# Altium footprint library ST-08  V1.3.PcbLib: 11 footprints
Each footprint in its own frame and in the unit in brackets; x right, y up, seen from the top. Pads: shape width x height; smd on the part's side, far side on the other; paste and mask are expansions set on the pad; w line width, h text height; cw(c..) or ccw(c..) is an arc to the next point about the centre after c.
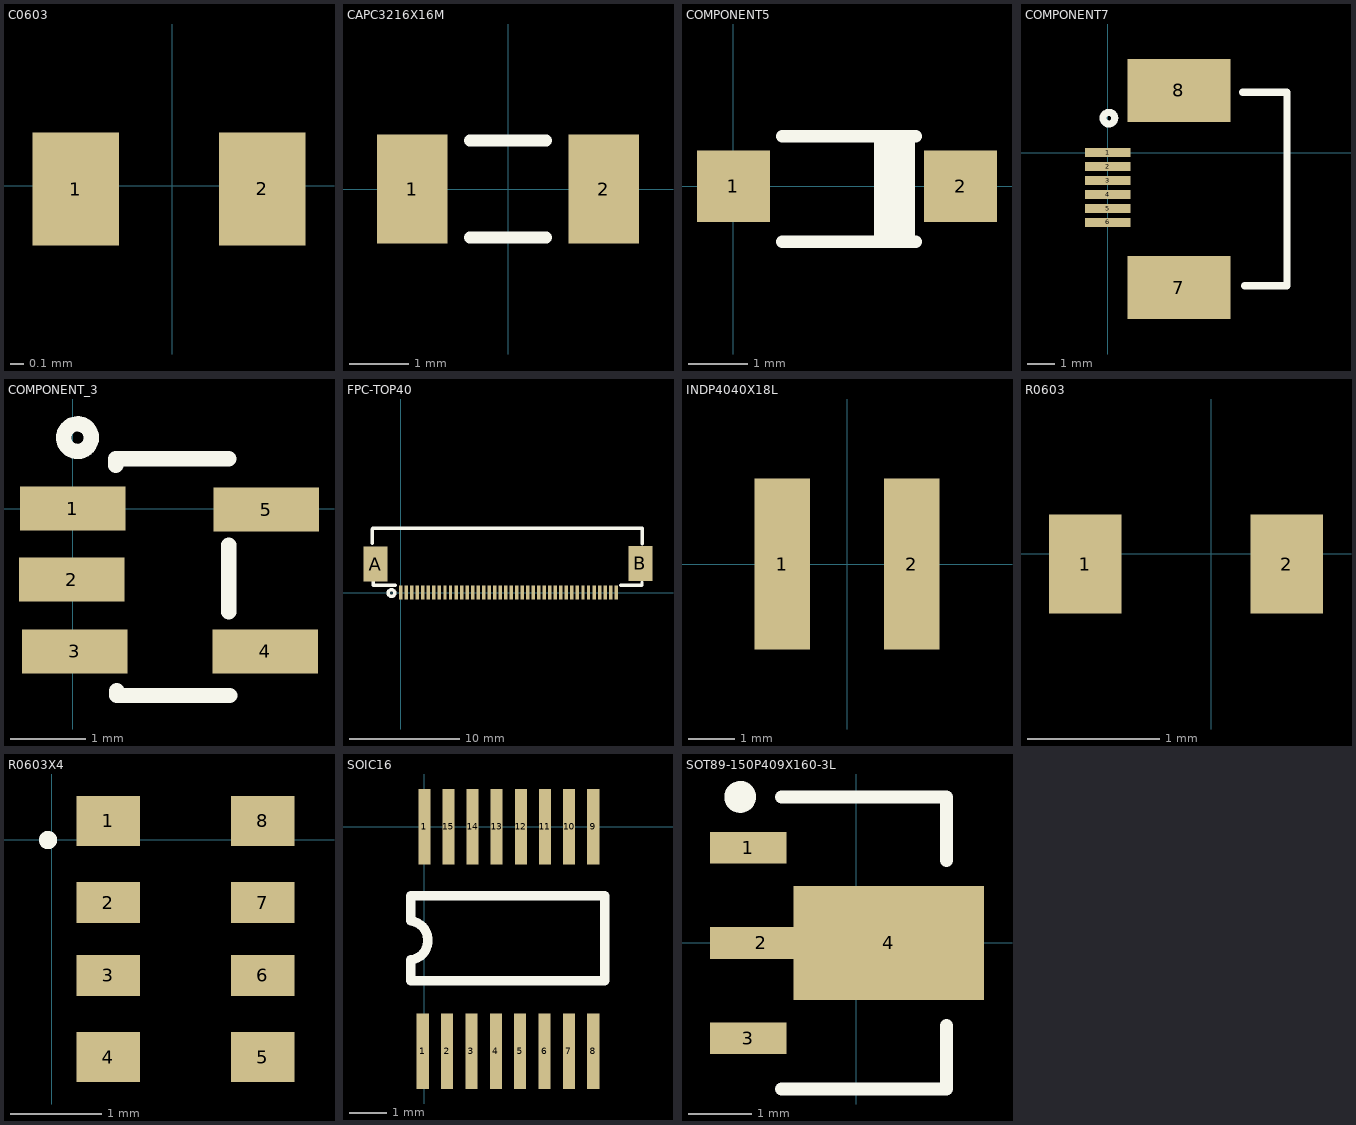
[diagram p0: the footprints below, top view; thin cyan lines are the x and y axes]

## C0603 [mm]
height 5
pads (2):
  rect 0.65x0.85 smd: 1(-0.725,-0.025) 2(0.675,-0.025)
3D body: height 0.45, standoff 0, extent -0.826,-0.425 0.774,0.375

## CAPC3216X16M [mm] "Chip Capacitor, 2-Leads, Body 3.20x1.60mm, IPC Low Density"
height 1.6
pads (2):
  rect 1.2x1.85 smd: 1(-1.625,0) 2(1.625,0)
Top Overlay:
  lines w0.2: -0.65,-0.825 0.65,-0.825 ; -0.65,0.825 0.65,0.825
3D body: height 1.6, standoff 0, extent -1.6,-0.8 1.6,0.8

## COMPONENT5 [mm]
pads (2):
  rect 1.221x1.195 smd: 1(0,0) 2(3.8,0)
Top Overlay:
  lines w0.203: 0.815,-0.927 3.051,-0.927 ; 0.815,0.838 3.051,0.838 ; 2.642,-0.927 2.642,0.838 ; 2.451,-0.927 2.502,-0.927 2.502,0.838 2.451,0.838 2.451,-0.927 ; 2.756,-0.927 2.934,-0.927 2.934,0.838 2.756,0.838 2.756,-0.927

## COMPONENT7 [mm]
pads (8):
  rect 1.622x0.312 smd: 1(0,0) 2(0,-0.5) 3(0,-1) 4(0,-1.5) 5(0,-2) 6(0,-2.5)
  rect 3.68x2.242 smd: 7(2.54,-4.827) 8(2.54,2.222)
Top Overlay:
  circle w0.254: c0.038,1.232 r0.208
  lines w0.254: 4.813,2.159 6.401,2.159 6.401,-4.763 4.889,-4.763

## COMPONENT_3 [mil]
pads (5):
  rect 55.05x23.05 smd: 1(0,0) 2(-0.5,-37) 3(1,-74.5) 4(100.5,-74.5) 5(101,-0.5)
Top Overlay:
  circle w8: c2.5,37 r7.21
  lines w8: 22.5,22.5 22.5,26 81.5,26 ; 23,-95 23,-97.5 82,-97.5 ; 81.5,-54 81.5,-19

## FPC-TOP40 [mm]
pads (42):
  rect 0.312x1.292 smd: 1(0,0) 2(0.5,0) 3(1,0) 4(1.5,0) 5(2,0) 6(2.5,0) 7(3,0) 8(3.5,0) 9(4,0) 10(4.5,0) 11(5,0) 12(5.5,0) 13(6,0) 14(6.5,0) 15(7,0) 16(7.506,0) 17(8,0) 18(8.5,0) 19(9,0) 20(9.5,0) 21(10,0) 22(10.5,0) 23(11,0) 24(11.5,0) 25(12,0) 26(12.5,0) 27(13,0) 28(13.5,0) 29(14,0) 30(14.5,0) 31(15,0) 32(15.5,0) 33(16,0) 34(16.5,0) 35(17,0) 36(17.5,0) 37(18,0) 38(18.5,0) 39(19,0) 40(19.5,0)
  rect 2.15x3.18 smd: A(-2.29,2.578) B(21.704,2.654)
Top Overlay:
  circle w0.305: c-0.851,-0.038 r0.302
  lines w0.305: -2.578,4.47 -2.578,5.74 ; -2.553,5.829 21.869,5.829 21.869,4.407 ; -2.515,0.978 -2.515,0.673 -0.508,0.673 ; 19.901,0.66 21.844,0.66 21.844,0.953

## INDP4040X18L [mm] "Precision Wire Wound Inductor, 2-Leads, Body 4.00x4.00mm, IPC High Density"
height 1.8
pads (2):
  rect 1.2x3.7 smd: 1(-1.4,0) 2(1.4,0)
3D body: height 2, standoff -0.01, extent -2,-2.001 2,2.089

## R0603 [mm]
height 5
pads (2):
  rect 0.55x0.75 smd: 1(-0.954,-0.076) 2(0.573,-0.076)
3D body: height 0.5, standoff 0, extent -0.978,-0.476 0.622,0.324

## R0603X4 [mm]
height 5
pads (8):
  rect 0.7x0.55 smd: 1(0.623,0.208) 4(0.623,-2.392) 5(2.323,-2.392) 8(2.323,0.208)
  rect 0.7x0.45 smd: 2(0.623,-0.692) 3(0.623,-1.492) 6(2.323,-1.492) 7(2.323,-0.692)
Top Overlay:
  circle w0.1: c-0.039,-0.004 r0.05
3D body: height 0.53, standoff -0.03, extent 0.673,-2.692 2.273,0.508

## SOIC16 [mil]
pads (16):
  rect 12.65x79.2 smd: 1(-1.63,-236) 1(0,0) 2(23.96,-236) 3(49.55,-236) 4(75.14,-236) 5(100.73,-236) 6(126.32,-236) 7(151.91,-236) 8(177.5,-236) 9(177.5,-0.17) 10(152.14,-0.15) 11(126.79,-0.12) 12(101.43,-0.1) 13(76.07,-0.07) 14(50.71,-0.05) 15(25.36,-0.03)
Top Overlay:
  lines w10: -14,-162 189.5,-162 189.5,-72.5 -14,-72.5 -14,-99 cw(c-16.87,-119.5) -14,-140 -14,-162

## SOT89-150P409X160-3L [mm] "SOT89, 3-Leads, Body 4.50x2.50mm, Pitch 1.50mm, Lead Span 4.1mm, IPC High Density"
height 1.6
pads (4):
  rect 1.2x0.5 smd: 1(-1.7,1.5) 3(-1.7,-1.5)
  rect 1.6x0.5 smd: 2(-1.5,0)
  rect 3x1.8 smd: 4(0.508,0)
Top Overlay:
  circle w0.25: c-1.827,2.3 r0.125
  lines w0.2: -1.178,-2.3 1.422,-2.3 1.422,-1.3 ; -1.178,2.3 1.422,2.3 1.422,1.3
3D body: height 1.5, standoff 0, extent -2.173,-2.25 1.929,2.25